# Altium schematic symbol library openmv-ae3-r3.SCHLIB: 73 symbols
Pins are listed as number, name and electrical type; pins without a type are passive.

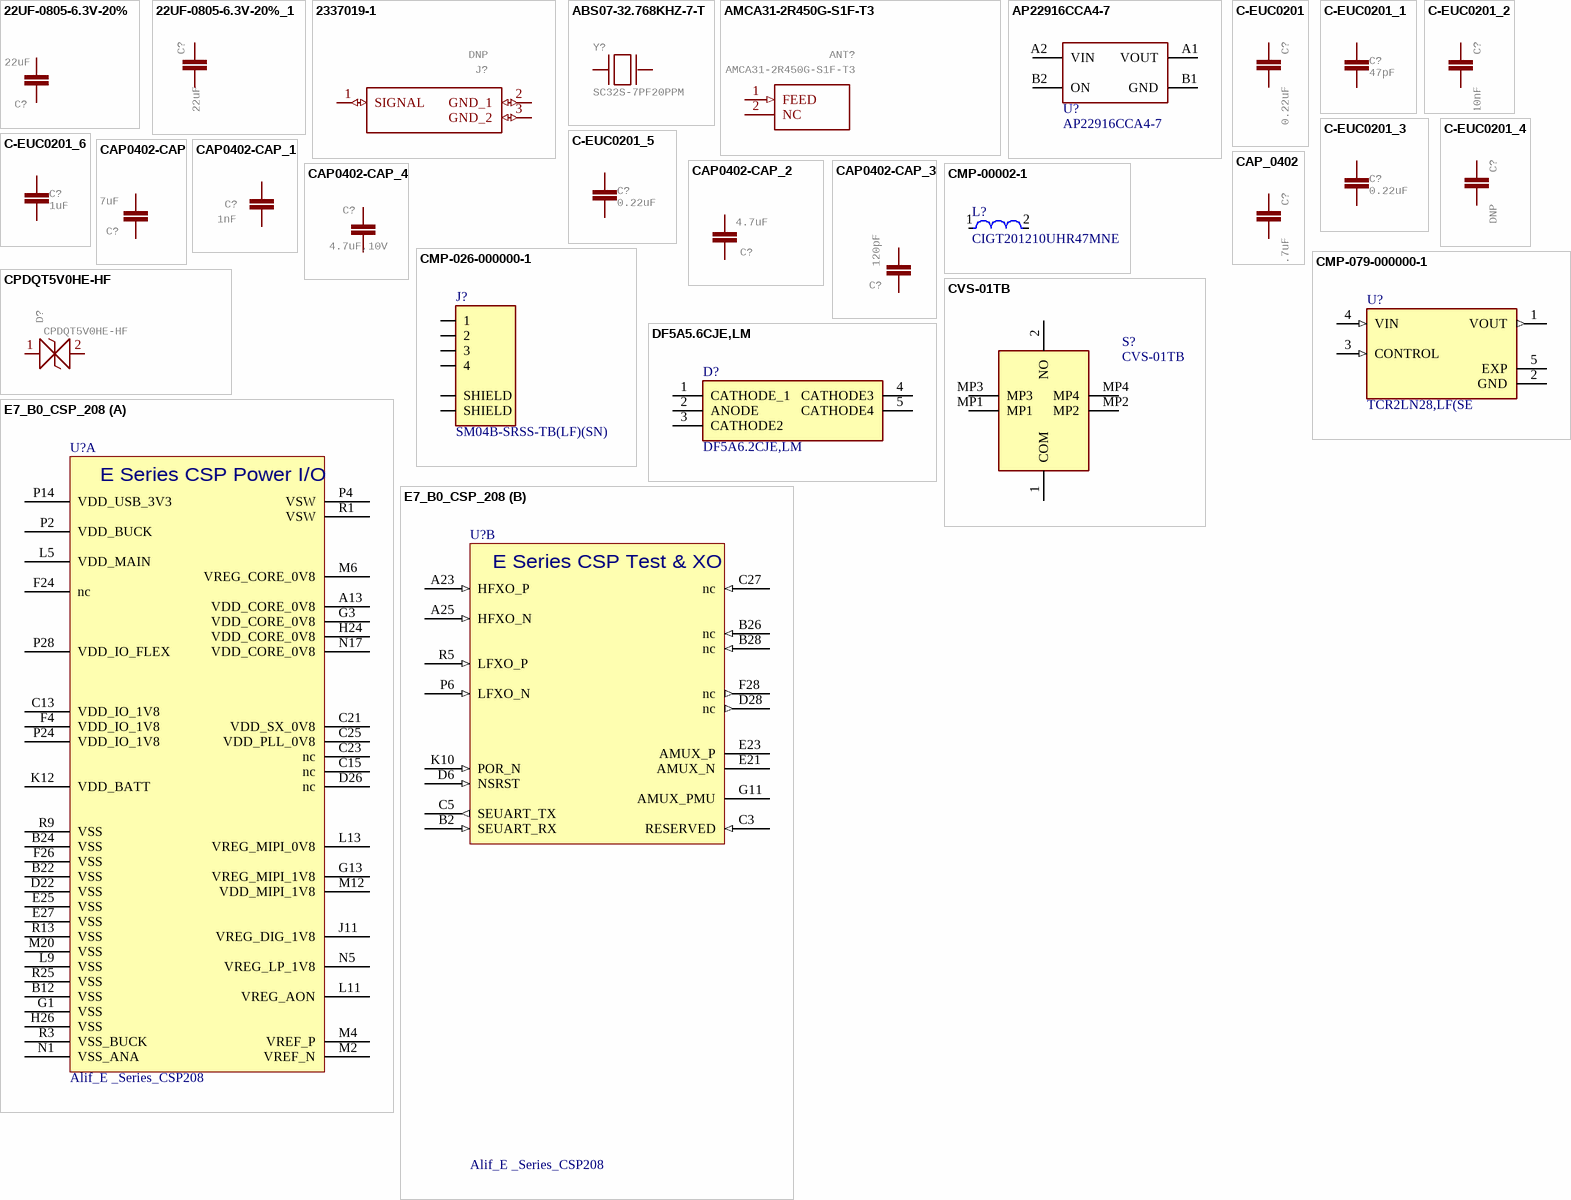
[diagram p0: symbols 22UF-0805-6.3V-20% to E7_B0_CSP_208]

## 22UF-0805-6.3V-20%
designator C?, comment 22uF
22ÂµF ceramic capacitors    A capacitor is a passive two-terminal electrical component used to store electrical energy temporarily in an electric field.; MPN: CL21A226MQQNNNE; GateName_1: G$1; SymbolName_1: CAP; DeviceName: -0805-6.3V-20%; PROD_ID: CAP-08402; LibraryName: SparkFun-Capacitors; DeviceSetName: 22UF; Part Number: CL21A226MQQNNNE
footprint 0805
pins: 1, 2

## 22UF-0805-6.3V-20%_1
designator C?, comment 22uF
22ÂµF ceramic capacitors    A capacitor is a passive two-terminal electrical component used to store electrical energy temporarily in an electric field.; MPN: CL21A226MQQNNNE; GateName_1: G$1; SymbolName_1: CAP; DeviceName: -0805-6.3V-20%; PROD_ID: CAP-08402; LibraryName: SparkFun-Capacitors; DeviceSetName: 22UF
footprint 0805
pins: 1, 2

## 2337019-1
designator J?, comment DNP
RF Connectors / Coaxial Connectors MicroCoax receptacle UMCC Gen 1   Source:  Datasheet; MANUFACTURER_NAME: TE Connectivity; GateName_1: G$1; SymbolName_1: 2337019-1; POPULATE: 0; LibraryName: 2337019-1; DeviceSetName: 2337019-1; HEIGHT: 1.4mm; MANUFACTURER_PART_NUMBER: 2337019-1; MOUSER_PART_NUMBER: 571-2337019-1; MOUSER_PRICE-STOCK: https://www.mouser.co.uk/ProductDetail/TE-Connectivity/2337019-1?qs=l4Gc20tDgJIuN7nS9rJkJw%3D%3D; MPN: DNP; Part Number: DNP
footprint 23370191-NO-3D (23370191)
pins: 1 SIGNAL (io), 2 GND_1 (io), 3 GND_2 (io)

## ABS07-32.768KHZ-7-T
designator Y?, comment SC32S-7PF20PPM
Check availability; GateName_1: G$1; SymbolName_1: ABS07-32.768KHZ-7-T; MF: Abracon; LibraryName: ABS07-32.768KHZ-7-T; DeviceSetName: ABS07-32.768KHZ-7-T; AVAILABILITY: In Stock; MP: ABS07-32.768KHZ-7-T; MPN: SC32S-7PF20PPM; PACKAGE: SMD-2 Abracon LLC; PRICE: None; PURCHASE-URL: https://pricing.snapeda.com/search/part/ABS07-32.768KHZ-7-T/?ref=eda; Part Number: SC32S-7PF20PPM
footprint XTAL_ABS07-32.768KHZ-7-T
pins: 1, 2

## AMCA31-2R450G-S1F-T3
designator ANT?
ABRACON - AMCA31-2R450G-S1F-T3 - ANTENNA, CHIP, 2.45GHZ, 50 OHM, 1206   Source:  Datasheet; GateName_1: G$1; SymbolName_1: AMCA31-2R450G-S1F-T3; LibraryName: AMCA31-2R450G-S1F-T3; DeviceSetName: AMCA31-2R450G-S1F-T3; HEIGHT: 1.4mm; MANUFACTURER_NAME: ABRACON; MANUFACTURER_PART_NUMBER: AMCA31-2R450G-S1F-T3; MOUSER_PART_NUMBER: 815-CA312R450GS1FT3; MOUSER_PRICE-STOCK: https://www.mouser.co.uk/ProductDetail/ABRACON/AMCA31-2R450G-S1F-T3?qs=AAveGqk956GLuOddQEK40Q%3D%3D; MPN: AMCA31-2R450G-S1F-T3; Part Number: AMCA31-2R450G-S1F-T3
footprint ANTC3216X140N
pins: 1 FEED (in), 2 NC

## AP22916CCA4-7
designator U?, comment MPN: AP22916CCA4-7  (hidden comment: PMOS Load Switch)
MF: Diodes Inc; Part Number: AP22916CCA4-7
footprint AP22916CCA4-7
pins: A1 VOUT, A2 VIN, B1 GND, B2 ON

## C-EUC0201
designator C?, comment 0.22uF
CAPACITOR, European symbol; MPN: GRM033R60J224ME15D; GateName_1: G$1; SymbolName_1: C-EU; DeviceName: C0201; POPULARITY: 0; LibraryName: rcl; DeviceSetName: C-EU; SPICEPREFIX: C; Part Number: GRM033R60J224ME15D
footprint C0201
pins: 1, 2

## C-EUC0201_1
designator C?, comment 47pF
CAPACITOR, European symbol; MPN: GRM0335C1H470GA01J; GateName_1: G$1; SymbolName_1: C-EU; DeviceName: C0201; POPULARITY: 0; SPICEPREFIX: C; Part Number: GRM0335C1H470GA01J
footprint C0201
pins: 1, 2

## C-EUC0201_2
designator C?, comment 10nF
CAPACITOR, European symbol; MPN: 0402B103K250CT; GateName_1: G$1; SymbolName_1: C-EU; POPULARITY: 0; LibraryName: rcl; DeviceSetName: C-EU; SPICEPREFIX: C; Part Number: 0402B103K250CT
footprint 0402-CAP (Chip Capacitor, 2-Leads, Body  0402 (in) 1005 (mm), IPC Medium Density)
pins: 1, 2

## C-EUC0201_3
designator C?, comment 0.22uF
CAPACITOR, European symbol; MPN: GRM033R60J224ME15D; GateName_1: G$1; SymbolName_1: C-EU; DeviceName: C0201; POPULARITY: 0; LibraryName: rcl; DeviceSetName: C-EU; SPICEPREFIX: C; Part Number: GRM033R60J224ME15D
footprint C0201 (0201 IPC-7351)
pins: 1, 2

## C-EUC0201_4
designator C?, comment DNP
CAPACITOR, European symbol; GateName_1: G$1; SymbolName_1: C-EU; DeviceName: C0201; POPULARITY: 0; LibraryName: rcl; DeviceSetName: C-EU; MPN: DNP; SPICEPREFIX: C; Part Number: DNP
footprint C0201
pins: 1, 2

## C-EUC0201_5
designator C?, comment 0.22uF
CAPACITOR, European symbol; MPN: GRM033R60J224ME15D; GateName_1: G$1; SymbolName_1: C-EU; DeviceName: C0201; POPULARITY: 0; LibraryName: rcl; DeviceSetName: C-EU; SPICEPREFIX: C; Part Number: GRM033R60J224ME15D
footprint C0201
pins: 1, 2

## C-EUC0201_6
designator C?, comment 1uF
CAPACITOR, European symbol; MPN: CL03A105MQ3CSNC; GateName_1: G$1; SymbolName_1: C-EU; DeviceName: C0201; POPULARITY: 0; LibraryName: rcl; DeviceSetName: C-EU; SPICEPREFIX: C; Part Number: CL03A105MQ3CSNC
footprint C0201 (0201 IPC-7351)
pins: 1, 2

## CAP0402-CAP
designator C?, comment 4.7uF
CapacitorStandard 0603 ceramic capacitor, and 0.1" leaded capacitor.; MPN: JMK105BBJ475MV-F; GateName_1: G$1; SymbolName_1: CAP; DeviceName: 0402-CAP; LibraryName: sfe; DeviceSetName: CAP; Part Number: JMK105BBJ475MV-F
footprint 0402-CAP
pins: 1, 2

## CAP0402-CAP_1
designator C?, comment 1nF
Capacitor; MPN: VJ0402Y102JXACW1BC; GateName_1: G$1; SymbolName_1: CAP; DeviceName: 0402-CAP; LibraryName: sfe; DeviceSetName: CAP; Part Number: VJ0402Y102JXACW1BC
footprint 0402-CAP
pins: 1, 2

## CAP0402-CAP_2
designator C?, comment 4.7uF
CapacitorStandard 0603 ceramic capacitor, and 0.1" leaded capacitor.; MPN: JMK105BBJ475MV-F; GateName_1: G$1; SymbolName_1: CAP; DeviceName: 0402-CAP; LibraryName: sfe; DeviceSetName: CAP; Part Number: JMK105BBJ475MV-F
footprint 0402-CAP
pins: 1, 2

## CAP0402-CAP_3
designator C?, comment 120pF
MPN: GRM033R71H121KA12D; GateName_1: G$1; SymbolName_1: CAP; LibraryName: sfe; DeviceSetName: CAP; Part Number: GRM033R71H121KA12D
footprint C0201 (0201 IPC-7351)
pins: 1, 2

## CAP0402-CAP_4
designator C?, comment 4.7uF,10V
CapacitorStandard 0603 ceramic capacitor, and 0.1" leaded capacitor.; MPN: CL05A475MP5NRNC; GateName_1: G$1; SymbolName_1: CAP; DeviceName: 0402-CAP; LibraryName: sfe; DeviceSetName: CAP; Part Number: CL05A475MP5NRNC
footprint 0402-CAP
pins: 1, 2

## CAP_0402
designator C?, comment 4.7uF
0402 (1005 Metric) Nick Garner - TeleSense; MPN: JMK105BBJ475MV-F; GateName_1: G$1; SymbolName_1: CAP; DeviceSetName: CAP_0402; LibraryName: 0402
footprint 0402-CAP (Chip Capacitor, 2-Leads, Body  0402 (in) 1005 (mm), IPC Medium Density)
pins: 1, 2

## CMP-00002-1
designator L?, comment CIGT201210UHR47MNE
Power Inductor : LxW size(mm) 2012 Thickness1 Inductance (uH) 20%: 0.47; Current Rating: 3.6A; Shielding: Unshielded; Test Frequency: 1MHz; DC Resistance (DCR): 31mR; Saturation Current: 5.4A; Core Material: Metal,Composite; Value: 470nH; Tolerance: 20%; Packaging: Cut Tape; Case Code (Imperial): 0805; Case/Package: 0805; RoHS Compliant: Yes; Max Operating Temperature: 125°C; Series: CIGT; Min Operating Temperature: -40°C; Mounting Technology: Surface Mount; Case Code (Metric): 2012; MPN: CIGT201210UHR47MNE; Part Number: CIGT201210UHR47MNE
footprint 0805 (Chip Capacitor, Body 0805 imperial, 2.0x1.2mm, IPC Medium Density)
pins: 1, 2

## CMP-026-000000-1
designator J?, comment SM04B-SRSS-TB(LF)(SN)
SH Series 1.0 mm Pitch 2 Position Single Row Side Entry Shrouded Header; Availability: Unavailable; Value: *; Design Item ID: SM04B-SRSS-TB(LF)(SN); Source: SM04B-SRSS-TB(LF)(SN).SchLib; MP: SM04B-SRSS-TB(LF)(SN); Component Type: Standard; Package: None; Pin Count: 6; Price: None; Part Number: SM04B-SRSS-TB(LF)(SN); MPN: SM04B-SRSS-TB(LF)(SN)
footprint JST_SM04B-SRSS-TB(LF)(SN)
pins: 1, 2, 3, 4, S1 SHIELD, S2 SHIELD

## CMP-079-000000-1
designator U?, comment TCR2LN28,LF(SE
Linear Voltage Regulator IC Positive Fixed 1 Output 200mA 4-SDFN (0.8x0.8); MF: Toshiba Semiconductor; Component Type: Standard; Availability: In Stock; Value: *; Price: None; Design Item ID: TCR2LN28,LF(SE; MP: TCR2LN28,LF(SE; Package: XFDFN-4 Toshiba; Source: TCR2LN30_LF.SchLib; Pin Count: 5; MPN: TCR2LN28,LF(SE; Part Number: TCR2LN28,LF(SE
footprint VREG_TCR2LN30_LF
pins: 1 VOUT (out), 2 GND (power), 3 CONTROL (in), 4 VIN (in), 5 EXP (power)

## CPDQT5V0HE-HF
designator D?
ESD Suppressors / TVS Diodes DIODE ESD 5VWM 65W 0402/SOD-923F   Source:  Datasheet; MANUFACTURER_NAME: Comchip Technology; GateName_1: G$1; SymbolName_1: CPDQT5V0HE-HF; LibraryName: CPDQT5V0HE-HF; DeviceSetName: CPDQT5V0HE-HF; HEIGHT: 0.42mm; MANUFACTURER_PART_NUMBER: CPDQT5V0HE-HF; MOUSER_PART_NUMBER: MOUSER_PART_NUMBER; MOUSER_PRICE-STOCK: MOUSER_PRICE-STOCK; MPN: CPDQT5V0HE-HF; Part Number: CPDQT5V0HE-HF
footprint CPDQT5V0HEHF
pins: 1 (io), 2 (io)

## CVS-01TB
designator S?
Switch; Manufacturer_Name: Nidec Copal; Datasheet Link: https://www.mouser.com/datasheet/2/972/cvs-1827291.pdf; Height: 1.45mm; Manufacturer_Part_Number: CVS-01TB; Mouser Part Number: 229-CVS-01TB; Mouser Price/Stock: https://www.mouser.co.uk/ProductDetail/Nidec-Components/CVS-01TB?qs=XeJtXLiO41SVso1ahlfkxQ%3D%3D; Arrow Part Number: CVS-01TB; Arrow Price/Stock: https://www.arrow.com/en/products/cvs-01tb/nidec-copal-electronics; Part Number: CVS-01TB; MPN: CVS-01TB
footprint CVS01TB
pins: 1 COM, 2 NO, MP1, MP2, MP3, MP4

## DF5A5.6CJE,LM
designator D?, comment DF5A6.2CJE,LM
Diode; Manufacturer_Name: Toshiba; Height: 0.6mm; Manufacturer_Part_Number: DF5A6.2CJE,LM; Mouser Part Number: 757-DF5A6.2CJE,LM; Arrow Part Number: DF5A6.2CJE,LM; MPN: DF5A6.2CJE,LM; Part Number: DF5A6.2CJE,LM
footprint SOTFL50P160X60-5N
pins: 1 CATHODE_1, 2 ANODE, 3 CATHODE2, 4 CATHODE3, 5 CATHODE4

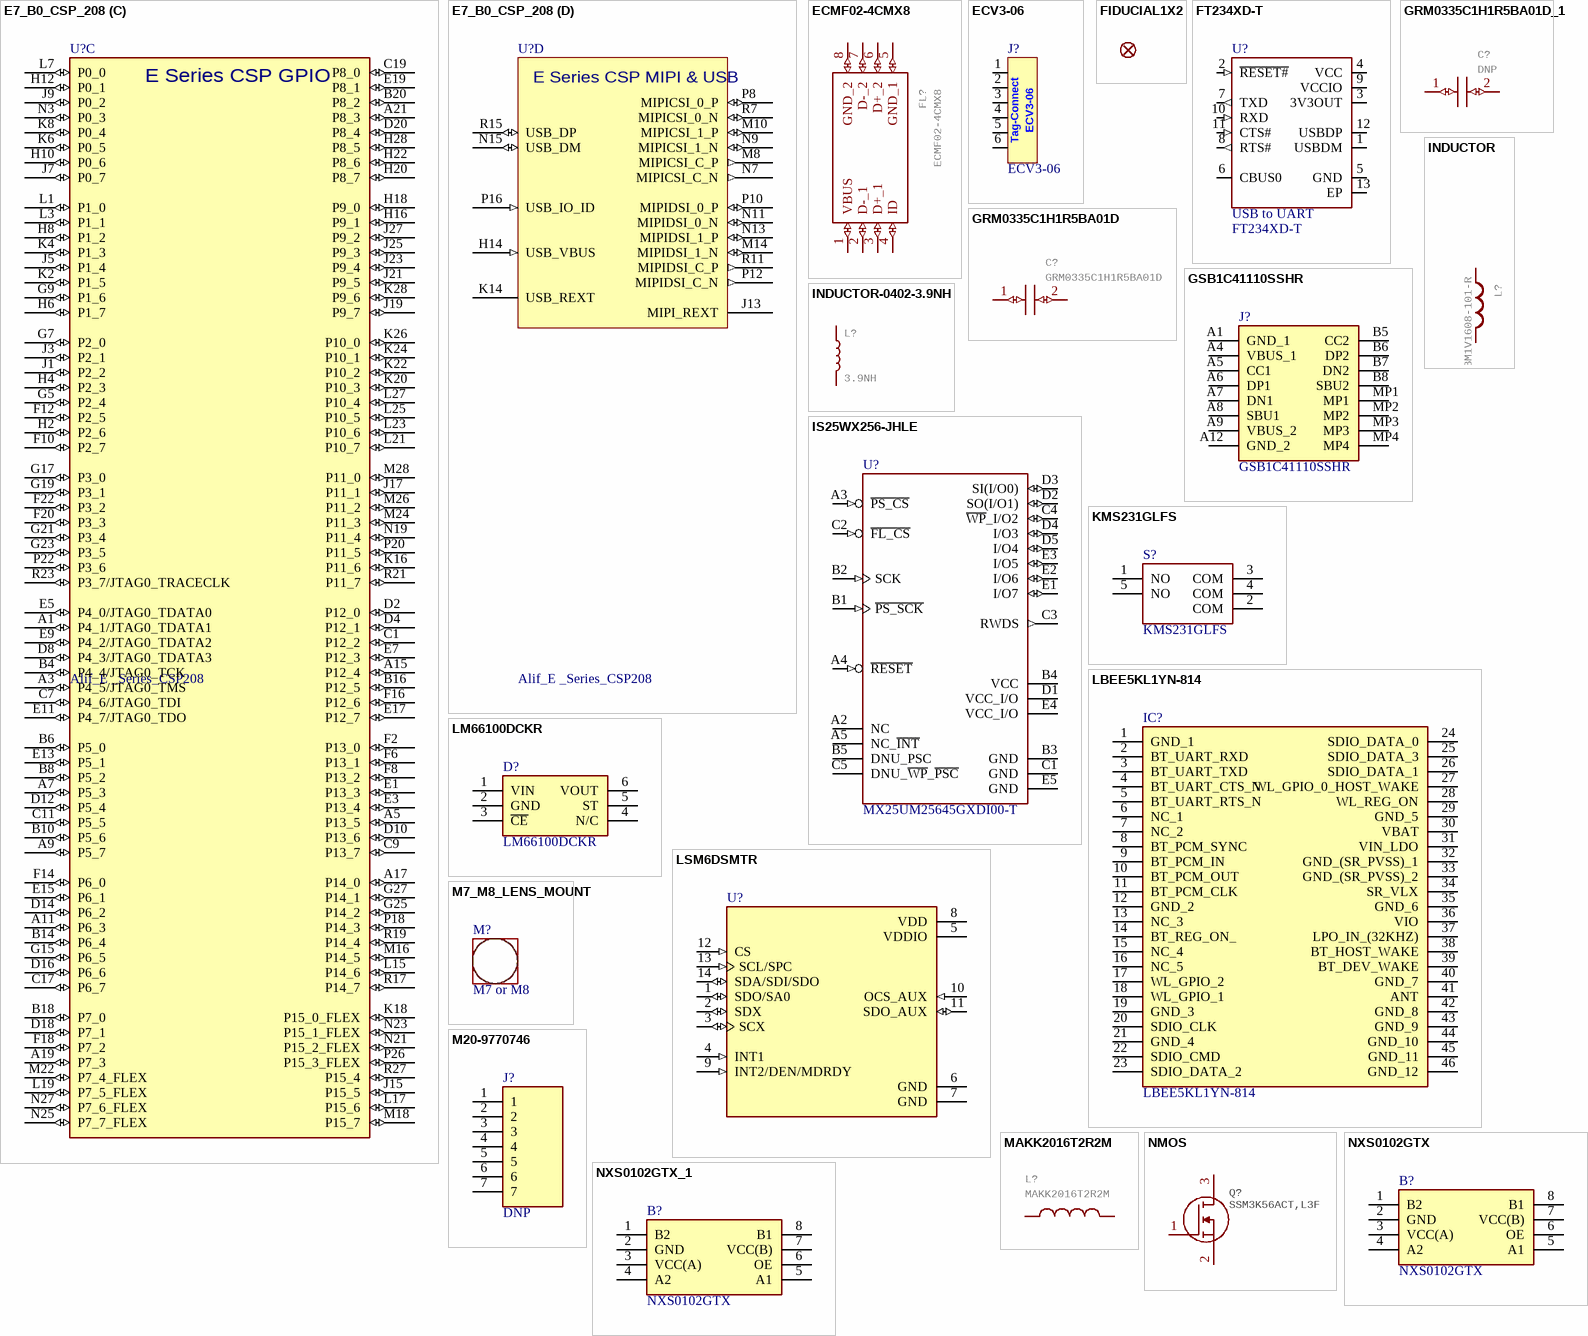
[diagram p1: symbols E7_B0_CSP_208 to NXS0102GTX_1]

## E7_B0_CSP_208
designator U?, comment Alif_E _Series_CSP208
IC,Alif E7 MCU, Rev B silicon,CSP208; Manufacturer 1: Alif Semi; Manufacturer Part Number 1: AE722F80F55D5AS
footprint CSP208 (LGA Package 208 pads)
part A pins: A13 VDD_CORE_0V8 (power), B12 VSS (power), B22 VSS (power), B24 VSS (power), C13 VDD_IO_1V8 (power), C15 nc (power), C21 VDD_SX_0V8 (power), C23 nc (power), C25 VDD_PLL_0V8 (power), D22 VSS (power), D26 nc (power), E25 VSS (power), E27 VSS (power), F4 VDD_IO_1V8 (power), F24 nc (power), F26 VSS (power), G1 VSS (power), G3 VDD_CORE_0V8 (power), G13 VREG_MIPI_1V8 (power), H24 VDD_CORE_0V8 (power), H26 VSS (power), J11 VREG_DIG_1V8 (power), K12 VDD_BATT (power), L5 VDD_MAIN (power), L9 VSS (power), L11 VREG_AON (power), L13 VREG_MIPI_0V8 (power), M2 VREF_N, M4 VREF_P, M6 VREG_CORE_0V8 (power), M12 VDD_MIPI_1V8 (power), M20 VSS (power), N1 VSS_ANA (power), N5 VREG_LP_1V8 (power), N17 VDD_CORE_0V8 (power), P2 VDD_BUCK (power), P4 VSW, P14 VDD_USB_3V3 (power), P24 VDD_IO_1V8 (power), P28 VDD_IO_FLEX (power), R1 VSW, R3 VSS_BUCK (power), R9 VSS (power), R13 VSS (power), R25 VSS (power)
part B pins: A23 HFXO_P (in), A25 HFXO_N (in), B2 SEUART_RX (in), B26 nc (in) "High Bands LTE Antenna Rx", B28 nc (in) "Low Bands LTE Antenna Tx", C3 RESERVED (in), C5 SEUART_TX (out), C27 nc (in) "GNSS Antenna Rx", D6 NSRST (in), D28 nc (out) "Low Bands LTE Antenna Tx", E21 AMUX_N, E23 AMUX_P, F28 nc (out) "High Bands LTE Antenna Rx", G11 AMUX_PMU, K10 POR_N (in), P6 LFXO_N (in), R5 LFXO_P (in)
part C pins: A1 P4_1/JTAG0_TDATA1 (io), A3 P4_5/JTAG0_TMS (io), A5 P13_5 (io), A7 P5_3 (io), A9 P5_7 (io), A11 P6_3 (io), A15 P12_4 (io), A17 P14_0 (io), A19 P7_3 (io), A21 P8_3 (io), B4 P4_4/JTAG0_TCK (io), B6 P5_0 (io), B8 P5_2 (io), B10 P5_6 (io), B14 P6_4 (io), B16 P12_5 (io), B18 P7_0 (io), B20 P8_2 (io), C1 P12_2 (io), C7 P4_6/JTAG0_TDI (io), C9 P13_7 (io), C11 P5_5 (io), C17 P6_7 (io), C19 P8_0 (io), D2 P12_0 (io), D4 P12_1 (io), D8 P4_3/JTAG0_TDATA3 (io), D10 P13_6 (io), D12 P5_4 (io), D14 P6_2 (io), D16 P6_6 (io), D18 P7_1 (io), D20 P8_4 (io), E1 P13_3 (io), E3 P13_4 (io), E5 P4_0/JTAG0_TDATA0 (io), E7 P12_3 (io), E9 P4_2/JTAG0_TDATA2 (io), E11 P4_7/JTAG0_TDO (io), E13 P5_1 (io), E15 P6_1 (io), E17 P12_7 (io), E19 P8_1 (io), F2 P13_0 (io), F6 P13_1 (io), F8 P13_2 (io), F10 P2_7 (io), F12 P2_5 (io), F14 P6_0 (io), F16 P12_6 (io), F18 P7_2 (io), F20 P3_3 (io), F22 P3_2 (io), G5 P2_4 (io), G7 P2_0 (io), G9 P1_6 (io), G15 P6_5 (io), G17 P3_0 (io), G19 P3_1 (io), G21 P3_4 (io), G23 P3_5 (io), G25 P14_2 (io), G27 P14_1 (io), H2 P2_6 (io), H4 P2_3 (io), H6 P1_7 (io), H8 P1_2 (io), H10 P0_6 (io), H12 P0_1 (io), H16 P9_1 (io), H18 P9_0 (io), H20 P8_7 (io), H22 P8_6 (io), H28 P8_5 (io), J1 P2_2 (io), J3 P2_1 (io), J5 P1_4 (io), J7 P0_7 (io), J9 P0_2 (io), J15 P15_5 (io), J17 P11_1 (io), J19 P9_7 (io), J21 P9_5 (io), J23 P9_4 (io), J25 P9_3 (io), J27 P9_2 (io), K2 P1_5 (io), K4 P1_3 (io), K6 P0_5 (io), K8 P0_4 (io), K16 P11_6 (io), K18 P15_0_FLEX (io), K20 P10_3 (io), K22 P10_2 (io), K24 P10_1 (io), K26 P10_0 (io), K28 P9_6 (io), L1 P1_0 (io), L3 P1_1 (io), L7 P0_0 (io), L15 P14_6 (io), L17 P15_6 (io), L19 P7_5_FLEX (io), L21 P10_7 (io), L23 P10_6 (io), L25 P10_5 (io), L27 P10_4 (io), M16 P14_5 (io), M18 P15_7 (io), M22 P7_4_FLEX (io), M24 P11_3 (io), M26 P11_2 (io), M28 P11_0 (io), N3 P0_3 (io), N19 P11_4 (io), N21 P15_2_FLEX (io), N23 P15_1_FLEX (io), N25 P7_7_FLEX (io), N27 P7_6_FLEX (io), P18 P14_3 (io), P20 P11_5 (io), P22 P3_6 (io), P26 P15_3_FLEX (io), R17 P14_7 (io), R19 P14_4 (io), R21 P11_7 (io), R23 P3_7/JTAG0_TRACECLK (io), R27 P15_4 (io)
part D pins: H14 USB_VBUS (in), J13 MIPI_REXT, K14 USB_REXT, M8 MIPICSI_C_P (out), M10 MIPICSI_1_P (io), M14 MIPIDSI_1_N (io), N7 MIPICSI_C_N (out), N9 MIPICSI_1_N (io), N11 MIPIDSI_0_N (io), N13 MIPIDSI_1_P (io), N15 USB_DM (io), P8 MIPICSI_0_P (io), P10 MIPIDSI_0_P (io), P12 MIPIDSI_C_N (out), P16 USB_IO_ID (in), R7 MIPICSI_0_N (io), R11 MIPIDSI_C_P (out), R15 USB_DP (io)
part A text: E Series CSP Power I/O
part B text: E Series CSP Test & XO
part C text: E Series CSP GPIO
part D text: E Series CSP MIPI & USB

## ECMF02-4CMX8
designator FL?
Common Mode Filter & ESD Prot. USB uQFN8 STMicroelectronics ECMF02 Series, Signal Filter uQFN SMD, Flat Contact Termination, 2.6 x 1.3 x 0.6mm   Source:  Datasheet; GateName_1: G$1; SymbolName_1: ECMF02-4CMX8; LibraryName: ECMF02-4CMX8; DeviceSetName: ECMF02-4CMX8; HEIGHT: mm; MANUFACTURER_NAME: STMicroelectronics; MANUFACTURER_PART_NUMBER: ECMF02-4CMX8; MOUSER_PART_NUMBER: 511-ECMF02-4CMX8; MOUSER_PRICE-STOCK: https://www.mouser.co.uk/ProductDetail/STMicroelectronics/ECMF02-4CMX8?qs=xYt8xtm2zhmK7GoDlDZR3A%3D%3D; MPN: ECMF02-4CMX8; Part Number: ECMF02-4CMX8
footprint ECMF024CMX8
pins: 1 VBUS (io), 2 D-_1 (io), 3 D+_1 (io), 4 ID (io), 5 GND_1 (io), 6 D+_2 (io), 7 D-_2 (io), 8 GND_2 (io)

## ECV3-06
designator J?  (no BOM)
Tag-Connect Edge-Connect ECV3-06 No-Solder Debug Castellated Pads Connector DO NOT PLACE NO BOM
footprint ECV3-06 (Tag-Connect ECV3-06 Edge-Connect Test Connector Castellated (NO BOM))
pins: 1, 2, 3, 4, 5, 6
text: Tag-Connect

## FIDUCIAL1X2
designator FD?  (value not drawn)
Fiducial Alignment Points    Point-of-reference for pick-and-place machines and other optical instruments.; GateName_1: G$1; DeviceName: 1X2; SymbolName_1: FIDUCIAL; LibraryName: SparkFun-Aesthetics; DeviceSetName: FIDUCIAL
footprint FIDUCIAL-1X2

## FT234XD-T
designator U?, comment USB to UART  MPN: FT234XD-T
USB Bridge, USB to UART USB 2.0 UART Interface 12-DFN _3x3_; MF: FTDI,; Part Number: FT234XD-T
footprint SON45P300X300X80-13N
pins: 1 USBDM (io), 2 ~{RESET#} (in), 3 3V3OUT (power), 4 VCC (power), 5 GND (power), 6 CBUS0 (io), 7 TXD (out), 8 RTS# (out), 9 VCCIO (power), 10 RXD (in), 11 CTS# (in), 12 USBDP (io), 13 EP (power)

## GRM0335C1H1R5BA01D
designator C?
Chip Capacitor value 1R5   Source:  Datasheet; MANUFACTURER_NAME: Murata Electronics; GateName_1: G$1; SymbolName_1: GRM0335C1H1R5BA01D; LibraryName: GRM0335C1H1R5BA01D; DeviceSetName: GRM0335C1H1R5BA01D; HEIGHT: 0.33mm; MANUFACTURER_PART_NUMBER: GRM0335C1H1R5BA01D; MOUSER_PART_NUMBER: 81-GRM0335C1H1R5BA1D; MOUSER_PRICE-STOCK: https://www.mouser.co.uk/ProductDetail/Murata-Electronics/GRM0335C1H1R5BA01D?qs=7vGxPDjevFPFqveGwv%252BPUQ%3D%3D; MPN: GRM0335C1H1R5BA01D; Part Number: GRM0335C1H1R5BA01D
footprint CAPC0603X33N
pins: 1 (io), 2 (io)

## GRM0335C1H1R5BA01D_1
designator C?, comment DNP
Chip Capacitor value 1R5   Source:  Datasheet; MANUFACTURER_NAME: Murata Electronics; GateName_1: G$1; SymbolName_1: GRM0335C1H1R5BA01D; POPULATE: 0; LibraryName: GRM0335C1H1R5BA01D; DeviceSetName: GRM0335C1H1R5BA01D; HEIGHT: 0.33mm; MANUFACTURER_PART_NUMBER: GRM0335C1H1R5BA01D; MOUSER_PART_NUMBER: 81-GRM0335C1H1R5BA1D; MOUSER_PRICE-STOCK: https://www.mouser.co.uk/ProductDetail/Murata-Electronics/GRM0335C1H1R5BA01D?qs=7vGxPDjevFPFqveGwv%252BPUQ%3D%3D; MPN: DNP; Part Number: DNP
footprint C0201-NO-3D (Footprint not found)
pins: 1 (io), 2 (io)

## GSB1C41110SSHR
designator J?
Connector; Manufacturer_Name: Amphenol Communications Solutions; Datasheet Link: https://cdn.amphenol-cs.com/media/wysiwyg/files/drawing/gsb1c41x10sshr-ax1.pdf; Height: 3.41mm; Manufacturer_Part_Number: GSB1C41110SSHR; Part Number: GSB1C41110SSHR; MPN: GSB1C41110SSHR
footprint GSB1C41110SSHR
pins: A1 GND_1, A4 VBUS_1, A5 CC1, A6 DP1, A7 DN1, A8 SBU1, A9 VBUS_2, A12 GND_2, B5 CC2, B6 DP2, B7 DN2, B8 SBU2, MP1, MP2, MP3, MP4

## INDUCTOR
designator L?, comment MFBM1V1608-101-R
InductorsBasic Inductor/Choke - 0603 and 1206. Footprints are not proven and vary greatly between part numbers.; GateName_1: G$1; MPN: MFBM1V1608-101-R; Part Number: MFBM1V1608-101-R
footprint 0603-RES
pins: 1, 2

## INDUCTOR-0402-3.9NH
designator L?, comment 3.9NH
Inductors    Resist changes in electrical current. Basically a coil of wire.   SparkFun Products:  SparkFun Load Cell Amplifier - HX711  IOIO-OTG - V2.2; MPN: L-07C3N9SV6T; GateName_1: G$1; DeviceName: -0402-3.9NH; PROD_ID: NDUC-13457; SymbolName_1: INDUCTOR; LibraryName: SparkFun-Coils; DeviceSetName: INDUCTOR; Part Number: L-07C3N9SV6T
footprint 0402
pins: 1, 2

## IS25WX256-JHLE
designator U?, comment MX25UM25645GXDI00-T
IC, Flash,32MB x 8, Octal SPI, Ind Temp, 1.8V,24-BGA; MF: ISSI; Part Number: MX25UM25645GXDI00-T; MPN: MX25UM25645GXDI00-T
footprint BGA24C100P5X5_800X600X120N
footprint 24-TBGA
pins: A2 NC, A3 ~{PS_CS} (in), A4 ~{RESET} (in), A5 NC_~{INT}, B1 ~{PS_SCK} (in), B2 SCK (in), B3 GND (power), B4 VCC (power), B5 DNU_PSC, C1 GND (power), C2 ~{FL_CS} (in), C3 RWDS (out), C4 ~{WP}_I/O2 (io), C5 DNU_~{WP}_~{PSC}, D1 VCC_I/O (power), D2 SO(I/O1) (io), D3 SI(I/O0) (io), D4 I/O3 (io), D5 I/O4 (io), E1 I/O7 (io), E2 I/O6 (io), E3 I/O5 (io), E4 VCC_I/O (power), E5 GND (power)

## KMS231GLFS
designator S?
Part Number: KMS231GLFS; MPN: KMS231GLFS
footprint KMS231GLFS
pins: 1 NO, 2 COM, 3 COM, 4 COM, 5 NO

## LBEE5KL1YN-814
designator IC?
Integrated Circuit; Manufacturer_Name: Murata Electronics; Datasheet Link: https://www.murata.com/products/productdata/8815814344734/type1yn.pdf; Height: 1.1mm; Manufacturer_Part_Number: LBEE5KL1YN-814; Mouser Part Number: 81-LBEE5KL1YN-814; Mouser Price/Stock: https://www.mouser.co.uk/ProductDetail/Murata-Electronics/LBEE5KL1YN-814?qs=TCDPyi3sCW1FrH0sh%252Bb5wA%3D%3D; Arrow Part Number: LBEE5KL1YN-814; Arrow Price/Stock: https://www.arrow.com/en/products/lbee5kl1yn-814/murata-manufacturing?region=nac; Part Number: LBEE5KL1YN-814; MPN: LBEE5KL1YN-814
footprint LBEE5KL1YN814
pins: 1 GND_1, 2 BT_UART_RXD, 3 BT_UART_TXD, 4 BT_UART_CTS_N, 5 BT_UART_RTS_N, 6 NC_1, 7 NC_2, 8 BT_PCM_SYNC, 9 BT_PCM_IN, 10 BT_PCM_OUT, 11 BT_PCM_CLK, 12 GND_2, 13 NC_3, 14 BT_REG_ON_, 15 NC_4, 16 NC_5, 17 WL_GPIO_2, 18 WL_GPIO_1, 19 GND_3, 20 SDIO_CLK, 21 GND_4, 22 SDIO_CMD, 23 SDIO_DATA_2, 24 SDIO_DATA_0, 25 SDIO_DATA_3, 26 SDIO_DATA_1, 27 WL_GPIO_0_HOST_WAKE, 28 WL_REG_ON, 29 GND_5, 30 VBAT, 31 VIN_LDO, 32 GND_(SR_PVSS)_1, 33 GND_(SR_PVSS)_2, 34 SR_VLX, 35 GND_6, 36 VIO, 37 LPO_IN_(32KHZ), 38 BT_HOST_WAKE, 39 BT_DEV_WAKE, 40 GND_7, 41 ANT, 42 GND_8, 43 GND_9, 44 GND_10, 45 GND_11, 46 GND_12

## LM66100DCKR
designator D?
Diode; Manufacturer_Name: Texas Instruments; Manufacturer_Part_Number: c; Datasheet Link: http://www.ti.com/lit/gpn/LM66100; Height: 1.1mm; Mouser Part Number: 595-LM66100DCKR; Mouser Price/Stock: https://www.mouser.co.uk/ProductDetail/Texas-Instruments/LM66100DCKR?qs=vLWxofP3U2y2yPPrXoBBoA%3D%3D; Arrow Part Number: LM66100DCKR; Arrow Price/Stock: null?region=nac; MPN: LM66100DCKR; Part Number: LM66100DCKR
footprint SOP65P210X110-6N
pins: 1 VIN, 2 GND, 3 ~{CE}, 4 N/C, 5 ST, 6 VOUT

## LSM6DSMTR
designator U?
Accelerometer, Gyroscope, Temperature, 6 Axis Sensor IÂ²C, SPI Output; MF: STMicroelectronics; MP: LSM6DSMTR; Design Item ID: LSM6DSMTR; Package: VFLGA-14 STMicroelectronics; Component Type: Standard; Price: None; Value: *; Pin Count: 14; SnapEDA_Link: https://www.snapeda.com/parts/LSM6DSMTR/STMicroelectronics/view-part/581716/?ref=snap; Availability: Unavailable; Source: SnapEDAsch.SchLib; MPN: LSM6DSMTR; Part Number: LSM6DSMTR
footprint LSM6DSMTR (Accelerometer, Gyroscope, Temperature, 6 Axis Sensor I²C, SPI Output)
pins: 1 SDO/SA0 (io), 2 SDX (io), 3 SCX (io), 4 INT1 (in), 5 VDDIO (power), 6 GND (power), 7 GND (power), 8 VDD (power), 9 INT2/DEN/MDRDY (in), 10 OCS_AUX (in), 11 SDO_AUX (io), 12 CS (in), 13 SCL/SPC (in), 14 SDA/SDI/SDO (io)

## M7_M8_LENS_MOUNT
designator M?, comment M7 or M8
footprint M7_M8 (Footprint not found)

## M20-9770746
designator J?, comment DNP
Connector; Manufacturer_Name: Harwin; Manufacturer_Part_Number: M20-9770746; Datasheet Link: https://cdn.harwin.com/pdfs/M20-977.pdf; Height: 8.44mm; Mouser Part Number: 855-M20-9770746; Mouser Price/Stock: https://www.mouser.co.uk/ProductDetail/Harwin/M20-9770746?qs=Jph8NoUxIfW4IDi91nhySw%3D%3D; MPN: DNP; Part Number: DNP
footprint HDRV7W66P0X254_1X7_1778X254X844P
pins: 1, 2, 3, 4, 5, 6, 7

## MAKK2016T2R2M
designator L?
INDUCTOR, METAL CORE Check availability; GateName_1: G$1; MF: Taiyo Yuden; SymbolName_1: MAKK2016T2R2M; LibraryName: MAKK2016T2R2M; DeviceSetName: MAKK2016T2R2M; AVAILABILITY: In Stock; MP: MAKK2016T2R2M; MPN: MAKK2016T2R2M; PACKAGE: 2016 Taiyo Yuden; PRICE: None; PURCHASE-URL: https://pricing.snapeda.com/search/part/MAKK2016T2R2M/?ref=eda; Part Number: MAKK2016T2R2M
footprint INDC2016X100N
pins: 1, 2

## NMOS
designator Q?  MPN: SSM3K56ACT,L3F  (hidden comment: NMOS)
Part Number: SSM3K56ACT,L3F
footprint DFN1006
pins: 1 G (io), 2 S (io), 3 D (io)

## NXS0102GTX
designator B?
Dual supply translating transceiver; open drain; auto direction sensing; Manufacturer_Name: Nexperia; Geometry.Height: 0.5mm; Mouser Part Number: 771-NXS0102GTX; Mouser Price/Stock: https://www.mouser.co.uk/ProductDetail/Nexperia/NXS0102GTX?qs=GBLSl2AkirukzzJX55VgJA%3D%3D; Manufacturer_Part_Number: NXS0102GTX; Datasheet Link: https://assets.nexperia.com/documents/data-sheet/NXS0102.pdf; MPN: NXS0102GTX; Part Number: NXS0102GTX
footprint NXS0102GTX
pins: 1 B2, 2 GND, 3 VCC(A), 4 A2, 5 A1, 6 OE, 7 VCC(B), 8 B1

## NXS0102GTX_1
designator B?, comment NXS0102GTX
Dual supply translating transceiver; open drain; auto direction sensing; Manufacturer_Name: Nexperia; Geometry.Height: 0.5mm; Mouser Part Number: 771-NXS0102GTX; Mouser Price/Stock: https://www.mouser.co.uk/ProductDetail/Nexperia/NXS0102GTX?qs=GBLSl2AkirukzzJX55VgJA%3D%3D; Manufacturer_Part_Number: NXS0102GTX; Datasheet Link: https://assets.nexperia.com/documents/data-sheet/NXS0102.pdf; MPN: NXS0102GTX; Part Number: NXS0102GTX
footprint NXS0102GTX
pins: 1 B2, 2 GND, 3 VCC(A), 4 A2, 5 A1, 6 OE, 7 VCC(B), 8 B1

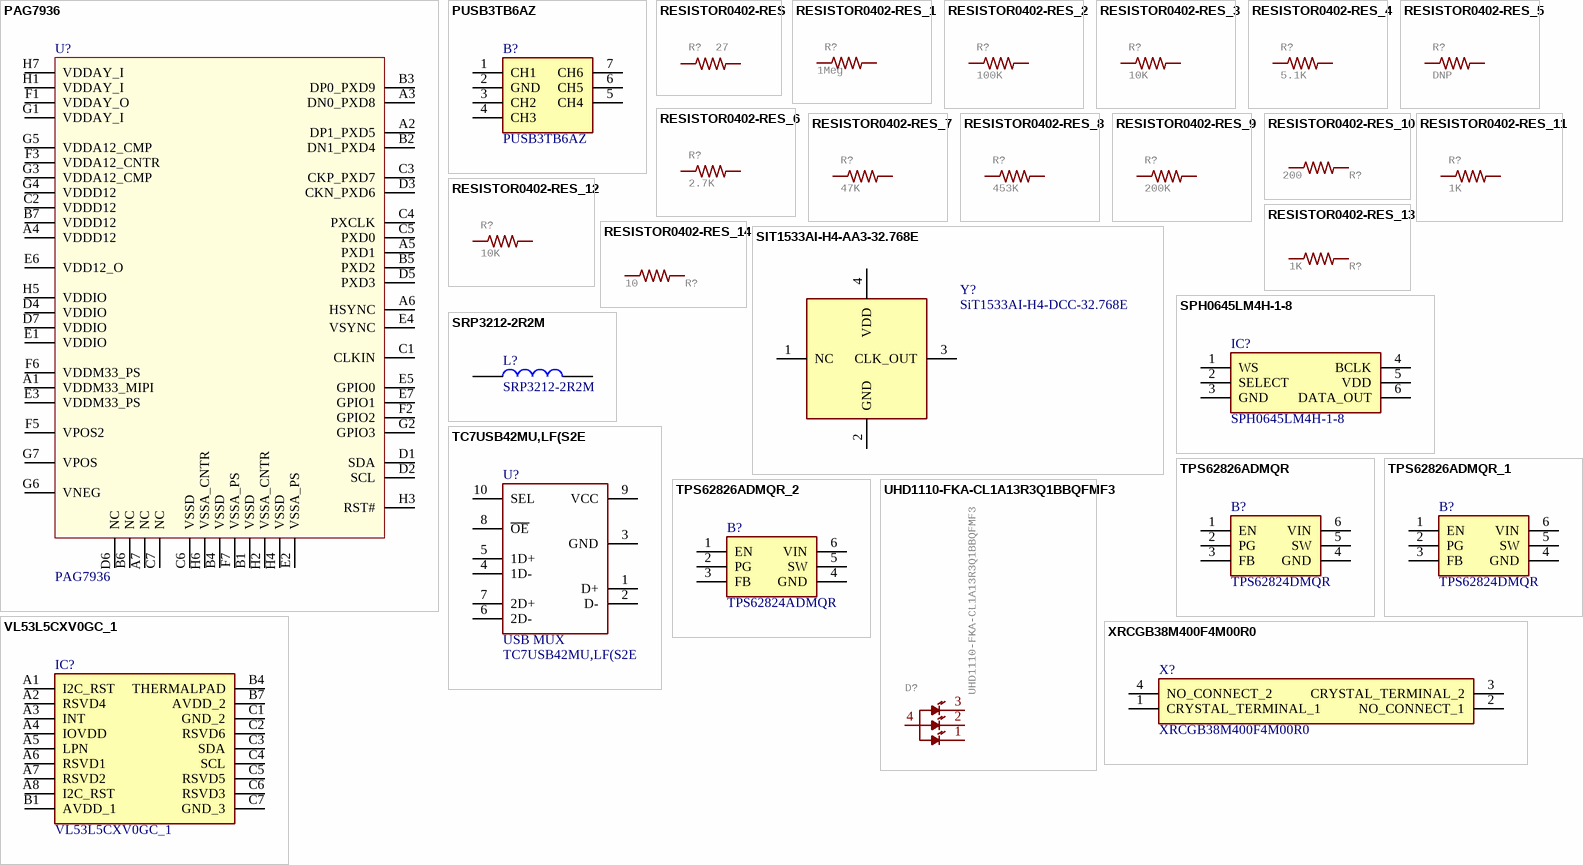
[diagram p2: symbols PAG7936 to XRCGB38M400F4M00R0]

## PAG7936
designator U?
MF: PixArt; MPN: PAG7936
footprint PAG7936 (Footprint not found)
pins: A1 VDDM33_MIPI, A2 DP1_PXD5, A3 DN0_PXD8, A4 VDDD12, A5 PXD1, A6 HSYNC, A7 NC, B1 VSSD, B2 DN1_PXD4, B3 DP0_PXD9, B4 VSSD, B5 PXD2, B6 NC, B7 VDDD12, C1 CLKIN, C2 VDDD12, C3 CKP_PXD7, C4 PXCLK, C5 PXD0, C6 VSSD, C7 NC, D1 SDA, D2 SCL, D3 CKN_PXD6, D4 VDDIO, D5 PXD3, D6 NC, D7 VDDIO, E1 VDDIO, E2 VSSA_PS, E3 VDDM33_PS, E4 VSYNC, E5 GPIO0, E6 VDD12_O, E7 GPIO1, F1 VDDAY_O, F2 GPIO2, F3 VDDA12_CNTR, F5 VPOS2, F6 VDDM33_PS, F7 VSSA_PS, G1 VDDAY_I, G2 GPIO3, G3 VDDA12_CMP, G4 VDDD12, G5 VDDA12_CMP, G6 VNEG, G7 VPOS, H1 VDDAY_I, H2 VSSA_CNTR, H3 RST#, H4 VSSD, H5 VDDIO, H6 VSSA_CNTR, H7 VDDAY_I

## PUSB3TB6AZ
designator B?
NEXPERIA - PUSB3TB6AZ - DIODE, ESD PROTECTION, 5.5V, 0.27PF; Geometry.Height: 0.5mm; Mouser Part Number: 771-PUSB3TB6AZ; Mouser Price/Stock: https://www.mouser.co.uk/ProductDetail/Nexperia/PUSB3TB6AZ?qs=K2OaAKmNuLgsAI4MRas6Xw%3D%3D; Manufacturer_Name: Nexperia; Manufacturer_Part_Number: PUSB3TB6AZ; Datasheet Link: https://assets.nexperia.com/documents/data-sheet/PUSB3TB6.pdf; Part Number: PUSB3TB6AZ; MPN: PUSB3TB6AZ
footprint PUSB3TB6AZ
pins: 1 CH1, 2 GND, 3 CH2, 4 CH3, 5 CH4, 6 CH5, 7 CH6

## RESISTOR0402-RES
designator R?, comment 27
MPN: RC0201JR-0727RL; GateName_1: G$1; SymbolName_1: RESISTOR; LibraryName: sfe; DeviceSetName: RESISTOR; Part Number: RC0201JR-0727RL
footprint R0201 (0201 IPC-7351)
pins: 1, 2

## RESISTOR0402-RES_1
designator R?, comment 1Meg
Resistor; MPN: CRCW04021M00FKEDC; GateName_1: G$1; DeviceName: 0402-RES; SymbolName_1: RESISTOR; LibraryName: sfe; DeviceSetName: RESISTOR; Part Number: CRCW04021M00FKEDC
footprint 0402-RES
pins: 1, 2

## RESISTOR0402-RES_2
designator R?, comment 100K
MPN: RMCF0201FT100K; GateName_1: G$1; SymbolName_1: RESISTOR; LibraryName: sfe; DeviceSetName: RESISTOR; Part Number: RMCF0201FT100K
footprint R0201 (0201 IPC-7351)
pins: 1, 2

## RESISTOR0402-RES_3
designator R?, comment 10K
MPN: RMCF0201FT10K0; GateName_1: G$1; SymbolName_1: RESISTOR; LibraryName: sfe; DeviceSetName: RESISTOR; Part Number: RMCF0201FT10K0
footprint R0201 (0201 IPC-7351)
pins: 1, 2

## RESISTOR0402-RES_4
designator R?, comment 5.1K
ResistorBasic schematic elements and footprints for 0603, 1206, and PTH resistors.; MPN: AC0201FR-075K1L; GateName_1: G$1; SymbolName_1: RESISTOR; LibraryName: sfe; DeviceSetName: RESISTOR; Part Number: AC0201FR-075K1L
footprint R0201 (0201 IPC-7351)
pins: 1, 2

## RESISTOR0402-RES_5
designator R?, comment DNP
GateName_1: G$1; SymbolName_1: RESISTOR; LibraryName: sfe; DeviceSetName: RESISTOR; MPN: DNP; Part Number: DNP
footprint R0201 (0201 IPC-7351)
pins: 1, 2

## RESISTOR0402-RES_6
designator R?, comment 2.7K
MPN: RC0201JR-072K7L; GateName_1: G$1; SymbolName_1: RESISTOR; LibraryName: sfe; DeviceSetName: RESISTOR; Part Number: RC0201JR-072K7L
footprint R0201 (0201 IPC-7351)
pins: 1, 2

## RESISTOR0402-RES_7
designator R?, comment 47K
MPN: RMCF0201FT47K0; GateName_1: G$1; SymbolName_1: RESISTOR; LibraryName: sfe; DeviceSetName: RESISTOR; Part Number: RMCF0201FT47K0
footprint R0201 (0201 IPC-7351)
pins: 1, 2

## RESISTOR0402-RES_8
designator R?, comment 453K
MPN: ERJ-1GNF4533C; GateName_1: G$1; SymbolName_1: RESISTOR; LibraryName: sfe; DeviceSetName: RESISTOR; Part Number: ERJ-1GNF4533C
footprint R0201 (0201 IPC-7351)
pins: 1, 2

## RESISTOR0402-RES_9
designator R?, comment 200K
MPN: RC0201JR-07200KL; GateName_1: G$1; SymbolName_1: RESISTOR; LibraryName: sfe; DeviceSetName: RESISTOR; Part Number: RC0201JR-07200KL
footprint R0201 (0201 IPC-7351)
pins: 1, 2

## RESISTOR0402-RES_10
designator R?, comment 200
MPN: CR0201-FW-2000GLF; GateName_1: G$1; SymbolName_1: RESISTOR; LibraryName: sfe; DeviceSetName: RESISTOR; Part Number: CR0201-FW-2000GLF
footprint R0201 (0201 IPC-7351)
pins: 1, 2

## RESISTOR0402-RES_11
designator R?, comment 1K
ResistorBasic schematic elements and footprints for 0603, 1206, and PTH resistors.; MPN: RMCF0201FT1K00; GateName_1: G$1; SymbolName_1: RESISTOR; LibraryName: sfe; DeviceSetName: RESISTOR; Part Number: RMCF0201FT1K00
footprint R0201 (0201 IPC-7351)
pins: 1, 2

## RESISTOR0402-RES_12
designator R?, comment 10K
ResistorBasic schematic elements and footprints for 0603, 1206, and PTH resistors.; MPN: RMCF0201FT10K0; GateName_1: G$1; SymbolName_1: RESISTOR; LibraryName: sfe; DeviceSetName: RESISTOR; Part Number: RMCF0201FT10K0
footprint R0201 (0201 IPC-7351)
pins: 1, 2

## RESISTOR0402-RES_13
designator R?, comment 1K
MPN: RMCF0201FT1K00; GateName_1: G$1; SymbolName_1: RESISTOR; LibraryName: sfe; DeviceSetName: RESISTOR; Part Number: RMCF0201FT1K00
footprint R0201 (0201 IPC-7351)
pins: 1, 2

## RESISTOR0402-RES_14
designator R?, comment 10
MPN: RMCF0201JT10R0; GateName_1: G$1; SymbolName_1: RESISTOR; LibraryName: sfe; DeviceSetName: RESISTOR; Part Number: RMCF0201JT10R0
footprint R0201 (0201 IPC-7351)
pins: 1, 2

## SIT1533AI-H4-AA3-32.768E
designator Y?, comment SiT1533AI-H4-DCC-32.768E
Crystal or Oscillator; Manufacturer_Name: SiTime; Datasheet Link: https://www.mouser.com/datasheet/2/371/SiT1533_datasheet-1324419.pdf; Height: 0.6mm; Manufacturer_Part_Number: SiT1533AI-H4-DCC-32.768E; Mouser Part Number: 788-1533AIH4DCC32.76; Mouser Price/Stock: https://www.mouser.com/ProductDetail/SiTime/SiT1533AI-H4-DCC-32.768E?qs=5SDzjInHUKoUZz9ePr9JwA%3D%3D; Arrow Part Number: SiT1533AI-H4-DCC-32.768E; MPN: SiT1533AI-H4-DCC-32.768E; Part Number: SiT1533AI-H4-DCC-32.768E
footprint SIT1533AIH4AA332768E
pins: 1 NC, 2 GND, 3 CLK_OUT, 4 VDD

## SPH0645LM4H-1-8
designator IC?
Integrated Circuit; Manufacturer_Name: Knowles; Datasheet Link: https://www.knowles.com/docs/default-source/default-document-library/sph0645lm4h-1-datasheet.pdf?Status=Master&sfvrsn=751076b1_2; Height: 1.08mm; Manufacturer_Part_Number: SPH0645LM4H-1-8; Mouser Part Number: 721-SPH0645LM4H-1-8; Mouser Price/Stock: https://www.mouser.co.uk/ProductDetail/Knowles/SPH0645LM4H-1-8?qs=TuK3vfAjtkXP9L009Fh60A%3D%3D; MPN: SPH0645LM4H-1-8; Part Number: SPH0645LM4H-1-8
footprint SPH0645LM4H18
pins: 1 WS, 2 SELECT, 3 GND, 4 BCLK, 5 VDD, 6 DATA_OUT

## SRP3212-2R2M
designator L?
Ind,3.2x2.5x1mm,2.2uH?20%,4A,shd; Manufacturer_Name: Bourns; Geometry.Height: 1mm; Mouser Part Number: 652-SRP3212-2R2M; Mouser Price/Stock: https://www.mouser.co.uk/ProductDetail/Bourns/SRP3212-2R2M?qs=t7xnP681wgW9NT%2FfJNx1CA%3D%3D; Manufacturer_Part_Number: SRP3212-2R2M; Datasheet Link: https://www.bourns.com/pdfs/CVH.pdf; Part Number: SRP3212-2R2M; MPN: SRP3212-2R2M
footprint IND3225X100N
pins: 1, 2

## TC7USB42MU,LF(S2E
designator U?, comment USB MUX  MPN: TC7USB42MU,LF(S2E
MF: Toshiba; Part Number: TC7USB42MU,LF(S2E
footprint TC7USB42MU,LF(S2E (Footprint not found)
pins: 1 D+, 2 D-, 3 GND, 4 1D-, 5 1D+, 6 2D-, 7 2D+, 8 ~{OE}, 9 VCC, 10 SEL

## TPS62826ADMQR
designator B?, comment TPS62824DMQR
Switching Voltage Regulators 2.4-V to 5.5-V input, 3-A step-down converter with in 1.5-mm 1.5-mm QFN package; Manufacturer_Name: Texas Instruments; Manufacturer_Part_Number: TPS62826DMQR; Geometry.Height: 1mm; Mouser Part Number: 595-TPS62826DMQR; Mouser Price/Stock: https://www.mouser.co.uk/ProductDetail/Texas-Instruments/TPS62826ADMQR?qs=KUoIvG%2F9Ila3pPUbedlDEw%3D%3D; Datasheet Link: https://www.ti.com/lit/ds/symlink/tps62825a.pdf?ts=1608196934558&ref_url=https%253A%252F%252Fwww.ti.com%252Fstore%252Fti%252Fen%252Fp%252Fproduct%252F%253Fp%253DTPS62825ADMQR%2526keyMatch%253DTPS62825ADMQR%2526tisearch%253DSearch-EN-everything%2526usecase; MPN: TPS62824DMQR; Part Number: TPS62824DMQR
footprint TPS62826ADMQR
pins: 1 EN, 2 PG, 3 FB, 4 GND, 5 SW, 6 VIN

## TPS62826ADMQR_1
designator B?, comment TPS62824DMQR
Switching Voltage Regulators 2.4-V to 5.5-V input, 1-A step-down converter in 1.5-mm 1.5-mm QFN package; Manufacturer_Name: Texas Instruments; Geometry.Height: 1mm; Mouser Part Number: 595-TPS62824DMQR; Mouser Price/Stock: https://www.mouser.co.uk/ProductDetail/Texas-Instruments/TPS62826ADMQR?qs=KUoIvG%2F9Ila3pPUbedlDEw%3D%3D; Manufacturer_Part_Number: TPS62824DMQR; Datasheet Link: https://www.ti.com/lit/ds/symlink/tps62825a.pdf?ts=1608196934558&ref_url=https%253A%252F%252Fwww.ti.com%252Fstore%252Fti%252Fen%252Fp%252Fproduct%252F%253Fp%253DTPS62825ADMQR%2526keyMatch%253DTPS62825ADMQR%2526tisearch%253DSearch-EN-everything%2526usecase; MPN: TPS62824DMQR; Part Number: TPS62824DMQR
footprint TPS62826ADMQR
pins: 1 EN, 2 PG, 3 FB, 4 GND, 5 SW, 6 VIN

## TPS62826ADMQR_2
designator B?, comment TPS62824ADMQR
Switching Voltage Regulators 2.4-V to 5.5-V input, 1-A step-down converter in 1.5-mm 1.5-mm QFN package; Manufacturer_Name: Texas Instruments; Manufacturer_Part_Number: TPS62824DMQR; Geometry.Height: 1mm; Mouser Part Number: 595-TPS62824DMQR; Mouser Price/Stock: https://www.mouser.co.uk/ProductDetail/Texas-Instruments/TPS62826ADMQR?qs=KUoIvG%2F9Ila3pPUbedlDEw%3D%3D; Datasheet Link: https://www.ti.com/lit/ds/symlink/tps62825a.pdf?ts=1608196934558&ref_url=https%253A%252F%252Fwww.ti.com%252Fstore%252Fti%252Fen%252Fp%252Fproduct%252F%253Fp%253DTPS62825ADMQR%2526keyMatch%253DTPS62825ADMQR%2526tisearch%253DSearch-EN-everything%2526usecase; MPN: TPS62824ADMQR; Part Number: TPS62824ADMQR
footprint TPS62826ADMQR
pins: 1 EN, 2 PG, 3 FB, 4 GND, 5 SW, 6 VIN

## UHD1110-FKA-CL1A13R3Q1BBQFMF3
designator D?
LED RGB SMD, SIZE 1 X 1 mm Check availability; GateName_1: G$1; MF: Cree Inc.; SymbolName_1: UHD1110-FKA-CL1A13R3Q1BBQFMF3; LibraryName: UHD1110-FKA-CL1A13R3Q1BBQFMF3; DeviceSetName: UHD1110-FKA-CL1A13R3Q1BBQFMF3; AVAILABILITY: In Stock; MP: UHD1110-FKA-CL1A13R3Q1BBQFMF3; MPN: UHD1110-FKA-CL1A13r3q1BBQFMF3; PACKAGE: 0404 Cree Inc.; PRICE: None; PURCHASE-URL: https://pricing.snapeda.com/search/part/UHD1110-FKA-CL1A13R3Q1BBQFMF3/?ref=eda; Part Number: UHD1110-FKA-CL1A13r3q1BBQFMF3
footprint LED_UHD1110-FKA-CL1A13R3Q1BBQFMF3
pins: 1 BLUE, 2 GREEN, 3 RED, 4 ANODE

## VL53L5CXV0GC_1
designator IC?
Integrated Circuit; Manufacturer_Name: STMicroelectronics; Manufacturer_Part_Number: VL53L5CXV0GC/1; Datasheet Link: https://www.arrow.com/en/products/vl53l5cxv0gc1/stmicroelectronics?region=nac; Height: 1.55mm; Mouser Part Number: 511-VL53L5CXV0GC/1; Mouser Price/Stock: https://www.mouser.co.uk/ProductDetail/STMicroelectronics/VL53L5CXV0GC-1?qs=QNEnbhJQKvZPmRJw6ASPyw%3D%3D; Arrow Part Number: VL53L5CXV0GC/1; Arrow Price/Stock: https://www.arrow.com/en/products/vl53l5cxv0gc1/stmicroelectronics?region=nac; Part Number: VL53L5CXV0GC/1; MPN: VL53L5CXV0GC/1
footprint VL53L5CXV0GC1
pins: A1 I2C_RST, A2 RSVD4, A3 INT, A4 IOVDD, A5 LPN, A6 RSVD1, A7 RSVD2, A8 I2C_RST, B1 AVDD_1, B4 THERMALPAD, B7 AVDD_2, C1 GND_2, C2 RSVD6, C3 SDA, C4 SCL, C5 RSVD5, C6 RSVD3, C7 GND_3

## XRCGB38M400F4M00R0
designator X?
2.0X1.6X0.65MM 38.4MHZ CRYSTAL; Manufacturer_Name: Murata Electronics; Geometry.Height: 0.7mm; Mouser Part Number: *; Mouser Price/Stock: *; Manufacturer_Part_Number: XRCGB38M400F4M00R0; Datasheet Link: http://www.murata.com/products/productdata/8801066811422/SPEC-XRCGB38M400F4M00R0.pdf; Part Number: XRCGB38M400F4M00R0; MPN: XRCGB38M400F4M00R0
footprint XTAL_2016 (2.0x1.6mm)
pins: 1 CRYSTAL_TERMINAL_1, 2 NO_CONNECT_1, 3 CRYSTAL_TERMINAL_2, 4 NO_CONNECT_2